# Altium footprint library PMOS.PcbLib: 1 footprints
Each footprint in its own frame and in the unit in brackets; x right, y up, seen from the top. Pads: shape width x height; smd on the part's side, far side on the other; paste and mask are expansions set on the pad; w line width, h text height; cw(c..) or ccw(c..) is an arc to the next point about the centre after c.
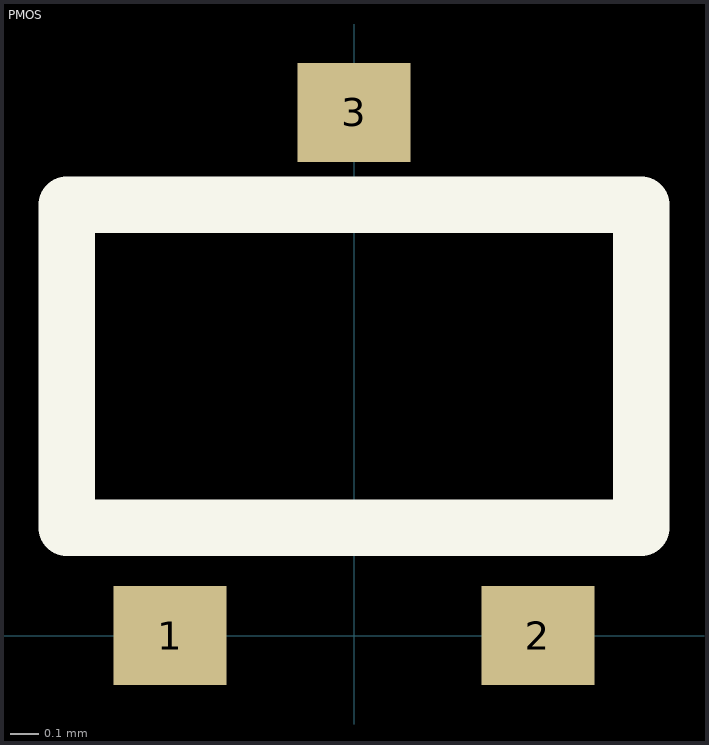
[diagram p0: the footprint, top view; thin cyan lines are the x and y axes]

## PMOS [mm]
pads (3):
  rect 0.4x0.35 smd: 1(-0.65,0) 2(0.65,0) 3(0,1.85)
Top Overlay:
  lines w0.2: -1.016,0.381 1.016,0.381 1.016,1.524 -1.016,1.524 -1.016,0.381